# Altium schematic symbol library Buttons.SchLib: 4 symbols
Pins are listed as number, name and electrical type; pins without a type are passive.

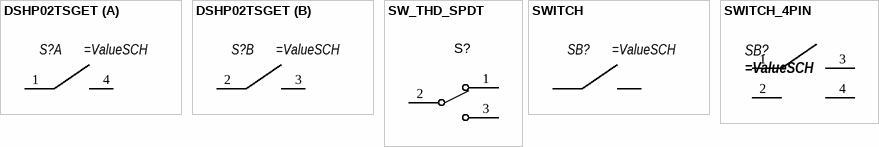
[diagram p0: symbols DSHP02TSGET to SWITCH_4PIN]

## DSHP02TSGET
designator S?
part A pins: 1, 4
part B pins: 2, 3

## SW_THD_SPDT
designator S?, comment ON-ON  (value not drawn)
Switch THD vertical toggle SPDT; Manufacturer 1: TE Connectivity; Manufacturer Part Number 1: SLS121PC04; Contact Rating @ Voltage: 0.25A @ 125VAC; SCDType: spec; Circuit: SPDT; Mounting Type: PCB mount; Supplier 1: Digi-Key; Supplier Part Number 1: 450-1598-ND
footprint SWITCH_SPDT_SLIDER (TE Connectivity SLS121PC04 SPDT slider)
pins: 1, 2, 3

## SWITCH
designator SB?
pins: 1, 2

## SWITCH_4PIN
designator SB?
pins: 1, 2, 3, 4